# Altium footprint library SOIC28P127_1790X1030X265L83X41N.PcbLib: 1 footprints
Each footprint in its own frame and in the unit in brackets; x right, y up, seen from the top. Pads: shape width x height; smd on the part's side, far side on the other; paste and mask are expansions set on the pad; w line width, h text height; cw(c..) or ccw(c..) is an arc to the next point about the centre after c.
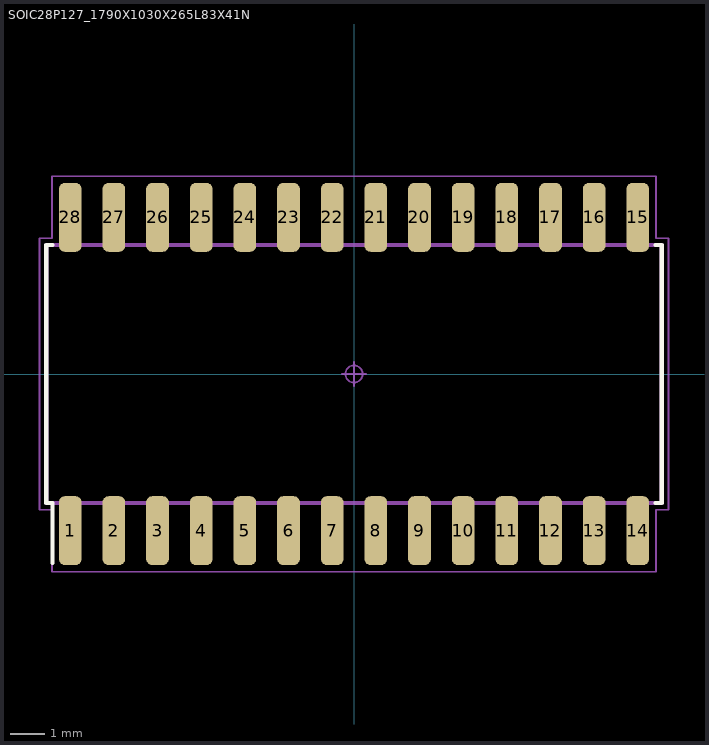
[diagram p0: the footprint, top view; thin cyan lines are the x and y axes]

## SOIC28P127_1790X1030X265L83X41N [mm] "Small Outline IC (SOIC), 1.27 mm pitch; 28 pin, 17.90 mm L X 7.50 mm W X 2.65 mm H body"
height 2.65
pads (28):
  rrect52% 0.66x2 smd: 1(-8.255,-4.555) 2(-6.985,-4.555) 3(-5.715,-4.555) 4(-4.445,-4.555) 5(-3.175,-4.555) 6(-1.905,-4.555) 7(-0.635,-4.555) 8(0.635,-4.555) 9(1.905,-4.555) 10(3.175,-4.555) 11(4.445,-4.555) 12(5.715,-4.555) 13(6.985,-4.555) 14(8.255,-4.555) 15(8.255,4.555) 16(6.985,4.555) 17(5.715,4.555) 18(4.445,4.555) 19(3.175,4.555) 20(1.905,4.555) 21(0.635,4.555) 22(-0.635,4.555) 23(-1.905,4.555) 24(-3.175,4.555) 25(-4.445,4.555) 26(-5.715,4.555) 27(-6.985,4.555) 28(-8.255,4.555)
Top Overlay:
  lines w0.12: -8.765,-5.495 -8.765,-3.75 -8.95,-3.75 -8.95,3.75 -8.765,3.75 ; 8.765,-3.75 8.95,-3.75 8.95,3.75 8.765,3.75
Mechanical 3:
  lines w0.12: -8.95,-3.75 -8.95,3.75 8.95,3.75 8.95,-3.75 -8.95,-3.75
Mechanical 5:
  lines w0.025: -8.95,-3.75 -8.95,3.75 8.95,3.75 8.95,-3.75 -8.95,-3.75 ; -8.46,-5.15 -8.05,-5.15 -8.05,-4.315 -8.46,-4.315 -8.46,-5.15 ; -8.46,4.315 -8.05,4.315 -8.05,5.15 -8.46,5.15 -8.46,4.315 ; -7.19,-5.15 -6.78,-5.15 -6.78,-4.315 -7.19,-4.315 -7.19,-5.15 ; -7.19,4.315 -6.78,4.315 -6.78,5.15 -7.19,5.15 -7.19,4.315 ; -5.92,-5.15 -5.51,-5.15 -5.51,-4.315 -5.92,-4.315 -5.92,-5.15 ; -5.92,4.315 -5.51,4.315 -5.51,5.15 -5.92,5.15 -5.92,4.315 ; -4.65,-5.15 -4.24,-5.15 -4.24,-4.315 -4.65,-4.315 -4.65,-5.15 ; -4.65,4.315 -4.24,4.315 -4.24,5.15 -4.65,5.15 -4.65,4.315 ; -3.38,-5.15 -2.97,-5.15 -2.97,-4.315 -3.38,-4.315 -3.38,-5.15 ; -3.38,4.315 -2.97,4.315 -2.97,5.15 -3.38,5.15 -3.38,4.315 ; -2.11,-5.15 -1.7,-5.15 -1.7,-4.315 -2.11,-4.315 -2.11,-5.15 ; -2.11,4.315 -1.7,4.315 -1.7,5.15 -2.11,5.15 -2.11,4.315 ; -0.84,-5.15 -0.43,-5.15 -0.43,-4.315 -0.84,-4.315 -0.84,-5.15 ; -0.84,4.315 -0.43,4.315 -0.43,5.15 -0.84,5.15 -0.84,4.315 ; 0.43,-5.15 0.84,-5.15 0.84,-4.315 0.43,-4.315 0.43,-5.15 ; 0.43,4.315 0.84,4.315 0.84,5.15 0.43,5.15 0.43,4.315 ; 1.7,-5.15 2.11,-5.15 2.11,-4.315 1.7,-4.315 1.7,-5.15 ; 1.7,4.315 2.11,4.315 2.11,5.15 1.7,5.15 1.7,4.315 ; 2.97,-5.15 3.38,-5.15 3.38,-4.315 2.97,-4.315 2.97,-5.15 ; 2.97,4.315 3.38,4.315 3.38,5.15 2.97,5.15 2.97,4.315 ; 4.24,-5.15 4.65,-5.15 4.65,-4.315 4.24,-4.315 4.24,-5.15 ; 4.24,4.315 4.65,4.315 4.65,5.15 4.24,5.15 4.24,4.315 ; 5.51,-5.15 5.92,-5.15 5.92,-4.315 5.51,-4.315 5.51,-5.15 ; 5.51,4.315 5.92,4.315 5.92,5.15 5.51,5.15 5.51,4.315 ; 6.78,-5.15 7.19,-5.15 7.19,-4.315 6.78,-4.315 6.78,-5.15 ; 6.78,4.315 7.19,4.315 7.19,5.15 6.78,5.15 6.78,4.315 ; 8.05,-5.15 8.46,-5.15 8.46,-4.315 8.05,-4.315 8.05,-5.15 ; 8.05,4.315 8.46,4.315 8.46,5.15 8.05,5.15 8.05,4.315
Mechanical 7:
  circle w0.05: c0,0 r0.25
  lines w0.05: -0.35,0 0.35,0 ; 0,-0.35 0,0.35 ; -9.15,-3.95 -9.15,3.95 -8.785,3.95 -8.785,5.755 8.785,5.755 8.785,3.95 9.15,3.95 9.15,-3.95 8.785,-3.95 8.785,-5.755 -8.785,-5.755 -8.785,-3.95 -9.15,-3.95
Mechanical 9:
  text "'.Designator'" at -5.69,-0.398 h1.02
3D body: height 4.5, standoff -4.5, extent -9.15,-5.755 9.15,5.755
3D body "SOIC28-W_MC_MCH.step": height 2.64, standoff 0, extent -8.954,-5.156 8.954,5.156